# Altium integrated library Linear Technology Operational Amplifiers (LT1000).IntLib: 2280 symbols (part 32 of 79)
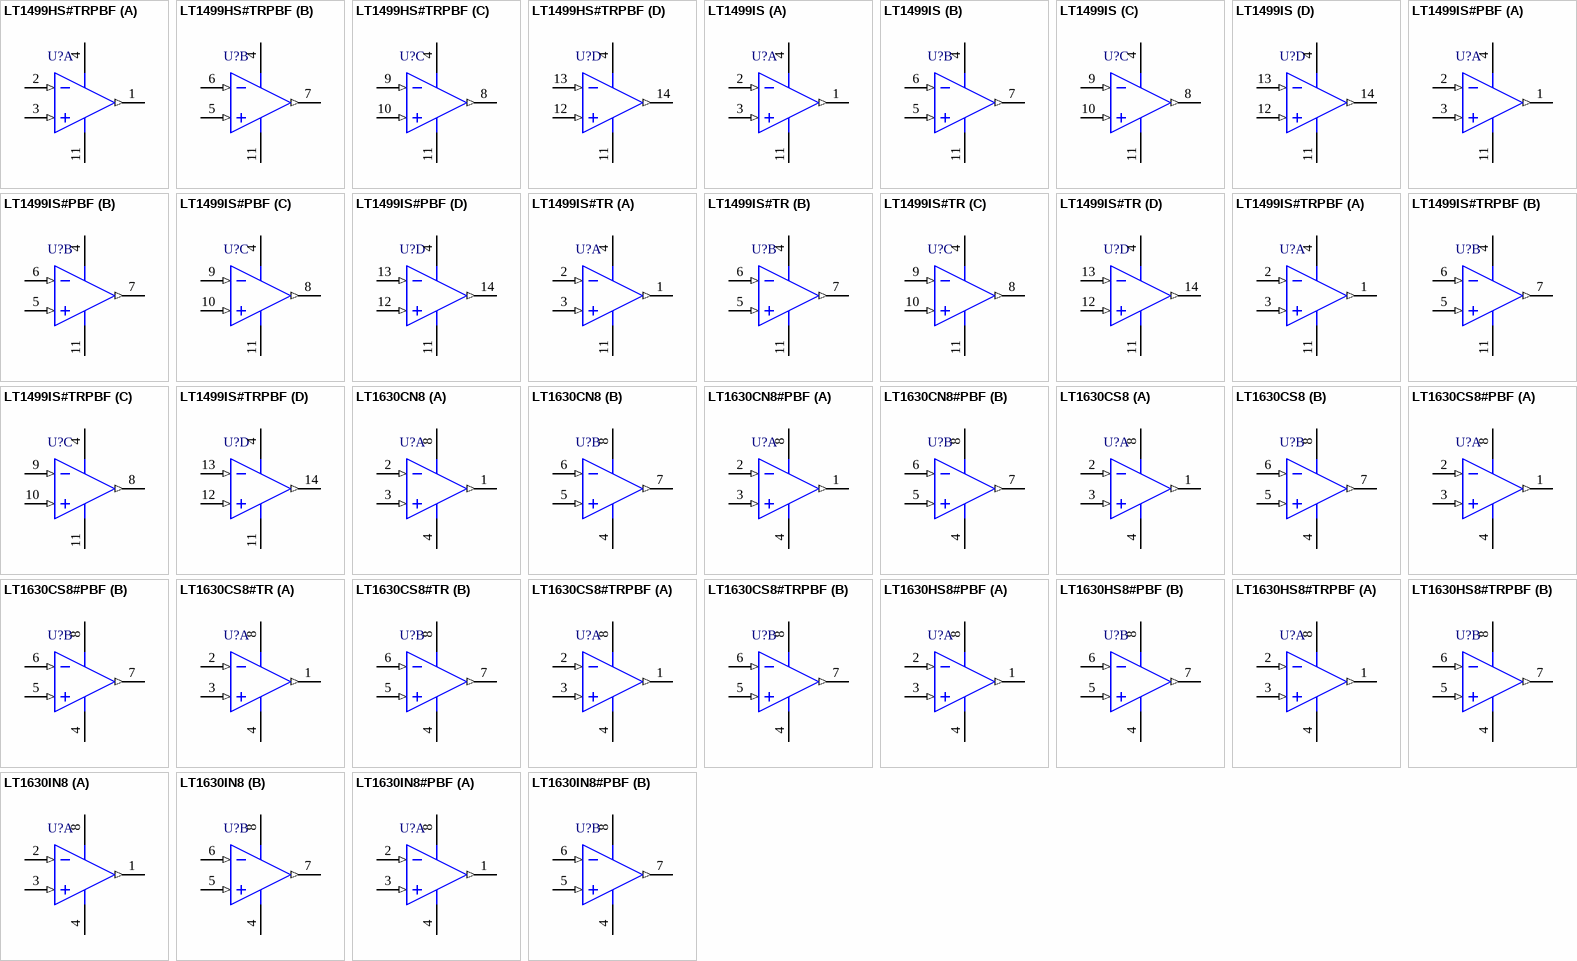
[diagram p136: symbols LT1499HS#TRPBF to LT1630IN8#PBF]

## LT1630CS8#PBF
designator U?
Dual Channel, Low Distortion, High Speed Precision Operational Amplifier, RRIO, 30 MHz Typical GBW, 9.2 V/us Typical SR, 2.6 to 36 V, 8-Pin SOIC (S8-8), Commercial, Pb-Free; Linear Technology Part Number: LT1630; Manufacturer: Linear Technology; PartNumber: LT1630CS8#PBF; Channels (#): 2; GBW (MHz) Typical: 30; Is (mA) Typical: 3.5; SR (V/us) Typical: 9.2; Vos (mV) Guaranteed: 0.525; Vos (mV) Typical: 0.15; Vs Max (V): 36; Vs Min (V): 2.6; DatasheetVersion: Rev. A; PackageVersion: Rev G; PackageReference: LT-S8-8; PackageDescription: 8-Pin Plastic Small Outline, Body 4.9 x 3.9 mm, Pitch 1.27 mm; Supplier 1: Digi-Key; Supplier Part Number 1: LT1630CS8#PBF-ND; Supplier 2: Farnell; Supplier Part Number 2: 1663453; Supplier 3: Newark; Supplier Part Number 3: 57M5280; RoHS: Pb-Free; Type: VFB; Mounting Technology: Surface Mount; ComponentLink1Description: Manufacturer URL; ComponentLink1URL: http://www.linear.com/; ComponentLink2Description: Datasheet; ComponentLink2URL: http://cds.linear.com/docs/en/datasheet/16301fa.pdf; ComponentLink3Description: Package Specification; ComponentLink3URL: http://cds.linear.com/docs/en/packaging/05081610_G_SO8.pdf
footprint LT-S8-8_N (SOIC, 8-Leads, Body 4.9x3.9mm, Pitch 1.27mm, IPC Medium Density)
footprint LT-S8-8_L (SOIC, 8-Leads, Body 4.9x3.9mm, Pitch 1.27mm, IPC High Density)
footprint LT-S8-8_M (SOIC, 8-Leads, Body 4.9x3.9mm, Pitch 1.27mm, IPC Low Density)
pins on every part: 4 V- (power), 8 V+ (power)
part A pins: 1 OUT A (out), 2 -IN A (in), 3 +IN A (in)
part B pins: 5 +IN B (in), 6 -IN B (in), 7 OUT B (out)

## LT1630CS8#TR
designator U?
Dual Channel, Low Distortion, High Speed Precision Operational Amplifier, RRIO, 30 MHz Typical GBW, 9.2 V/us Typical SR, 2.6 to 36 V, 8-Pin SOIC (S8-8), Commercial, Reel; Linear Technology Part Number: LT1630; Manufacturer: Linear Technology; PartNumber: LT1630CS8#TR; Channels (#): 2; GBW (MHz) Typical: 30; Is (mA) Typical: 3.5; SR (V/us) Typical: 9.2; Vos (mV) Guaranteed: 0.525; Vos (mV) Typical: 0.15; Vs Max (V): 36; Vs Min (V): 2.6; DatasheetVersion: Rev. A; PackageVersion: Rev G; PackageReference: LT-S8-8; PackageDescription: 8-Pin Plastic Small Outline, Body 4.9 x 3.9 mm, Pitch 1.27 mm; Supplier 1: Digi-Key; Supplier Part Number 1: LT1630CS8#TR-ND; Packing: Reel; Type: VFB; Mounting Technology: Surface Mount; ComponentLink1Description: Manufacturer URL; ComponentLink1URL: http://www.linear.com/; ComponentLink2Description: Datasheet; ComponentLink2URL: http://cds.linear.com/docs/en/datasheet/16301fa.pdf; ComponentLink3Description: Package Specification; ComponentLink3URL: http://cds.linear.com/docs/en/packaging/05081610_G_SO8.pdf
footprint LT-S8-8_N (SOIC, 8-Leads, Body 4.9x3.9mm, Pitch 1.27mm, IPC Medium Density)
footprint LT-S8-8_L (SOIC, 8-Leads, Body 4.9x3.9mm, Pitch 1.27mm, IPC High Density)
footprint LT-S8-8_M (SOIC, 8-Leads, Body 4.9x3.9mm, Pitch 1.27mm, IPC Low Density)
pins on every part: 4 V- (power), 8 V+ (power)
part A pins: 1 OUT A (out), 2 -IN A (in), 3 +IN A (in)
part B pins: 5 +IN B (in), 6 -IN B (in), 7 OUT B (out)

## LT1630CS8#TRPBF
designator U?
Dual Channel, Low Distortion, High Speed Precision Operational Amplifier, RRIO, 30 MHz Typical GBW, 9.2 V/us Typical SR, 2.6 to 36 V, 8-Pin SOIC (S8-8), Commercial, Pb-Free, Reel; Linear Technology Part Number: LT1630; Manufacturer: Linear Technology; PartNumber: LT1630CS8#TRPBF; Channels (#): 2; GBW (MHz) Typical: 30; Is (mA) Typical: 3.5; SR (V/us) Typical: 9.2; Vos (mV) Guaranteed: 0.525; Vos (mV) Typical: 0.15; Vs Max (V): 36; Vs Min (V): 2.6; DatasheetVersion: Rev. A; PackageVersion: Rev G; PackageReference: LT-S8-8; PackageDescription: 8-Pin Plastic Small Outline, Body 4.9 x 3.9 mm, Pitch 1.27 mm; Supplier 1: Digi-Key; Supplier Part Number 1: LT1630CS8#TRPBF-ND; Supplier 2: Newark; Supplier Part Number 2: 57M5282; Packing: Reel; RoHS: Pb-Free; Type: VFB; Mounting Technology: Surface Mount; ComponentLink1Description: Manufacturer URL; ComponentLink1URL: http://www.linear.com/; ComponentLink2Description: Datasheet; ComponentLink2URL: http://cds.linear.com/docs/en/datasheet/16301fa.pdf; ComponentLink3Description: Package Specification; ComponentLink3URL: http://cds.linear.com/docs/en/packaging/05081610_G_SO8.pdf
footprint LT-S8-8_N (SOIC, 8-Leads, Body 4.9x3.9mm, Pitch 1.27mm, IPC Medium Density)
footprint LT-S8-8_L (SOIC, 8-Leads, Body 4.9x3.9mm, Pitch 1.27mm, IPC High Density)
footprint LT-S8-8_M (SOIC, 8-Leads, Body 4.9x3.9mm, Pitch 1.27mm, IPC Low Density)
pins on every part: 4 V- (power), 8 V+ (power)
part A pins: 1 OUT A (out), 2 -IN A (in), 3 +IN A (in)
part B pins: 5 +IN B (in), 6 -IN B (in), 7 OUT B (out)

## LT1630HS8#PBF
designator U?
Dual Channel, Low Distortion, High Speed Precision Operational Amplifier, RRIO, 30 MHz Typical GBW, 9.2 V/us Typical SR, 2.6 to 36 V, 8-Pin SOIC (S8-8), High Temperature / Automotive, Pb-Free; Linear Technology Part Number: LT1630; Manufacturer: Linear Technology; PartNumber: LT1630HS8#PBF; Channels (#): 2; GBW (MHz) Typical: 30; Is (mA) Typical: 3.5; SR (V/us) Typical: 9.2; Vos (mV) Guaranteed: 0.525; Vos (mV) Typical: 0.15; Vs Max (V): 36; Vs Min (V): 2.6; DatasheetVersion: Rev. A; PackageVersion: Rev G; PackageReference: LT-S8-8; PackageDescription: 8-Pin Plastic Small Outline, Body 4.9 x 3.9 mm, Pitch 1.27 mm; Supplier 1: Digi-Key; Supplier Part Number 1: LT1630HS8#PBF-ND; Supplier 2: Newark; Supplier Part Number 2: 64R6812; RoHS: Pb-Free; Type: VFB; Mounting Technology: Surface Mount; ComponentLink1Description: Manufacturer URL; ComponentLink1URL: http://www.linear.com/; ComponentLink2Description: Datasheet; ComponentLink2URL: http://cds.linear.com/docs/en/datasheet/16301fa.pdf; ComponentLink3Description: Package Specification; ComponentLink3URL: http://cds.linear.com/docs/en/packaging/05081610_G_SO8.pdf
footprint LT-S8-8_N (SOIC, 8-Leads, Body 4.9x3.9mm, Pitch 1.27mm, IPC Medium Density)
footprint LT-S8-8_L (SOIC, 8-Leads, Body 4.9x3.9mm, Pitch 1.27mm, IPC High Density)
footprint LT-S8-8_M (SOIC, 8-Leads, Body 4.9x3.9mm, Pitch 1.27mm, IPC Low Density)
pins on every part: 4 V- (power), 8 V+ (power)
part A pins: 1 OUT A (out), 2 -IN A (in), 3 +IN A (in)
part B pins: 5 +IN B (in), 6 -IN B (in), 7 OUT B (out)

## LT1630HS8#TRPBF
designator U?
Dual Channel, Low Distortion, High Speed Precision Operational Amplifier, RRIO, 30 MHz Typical GBW, 9.2 V/us Typical SR, 2.6 to 36 V, 8-Pin SOIC (S8-8), High Temperature / Automotive, Pb-Free, Reel; Linear Technology Part Number: LT1630; Manufacturer: Linear Technology; PartNumber: LT1630HS8#TRPBF; Channels (#): 2; GBW (MHz) Typical: 30; Is (mA) Typical: 3.5; SR (V/us) Typical: 9.2; Vos (mV) Guaranteed: 0.525; Vos (mV) Typical: 0.15; Vs Max (V): 36; Vs Min (V): 2.6; DatasheetVersion: Rev. A; PackageVersion: Rev G; PackageReference: LT-S8-8; PackageDescription: 8-Pin Plastic Small Outline, Body 4.9 x 3.9 mm, Pitch 1.27 mm; Supplier 1: Digi-Key; Supplier Part Number 1: LT1630HS8#TRPBF-ND; Packing: Reel; RoHS: Pb-Free; Type: VFB; Mounting Technology: Surface Mount; ComponentLink1Description: Manufacturer URL; ComponentLink1URL: http://www.linear.com/; ComponentLink2Description: Datasheet; ComponentLink2URL: http://cds.linear.com/docs/en/datasheet/16301fa.pdf; ComponentLink3Description: Package Specification; ComponentLink3URL: http://cds.linear.com/docs/en/packaging/05081610_G_SO8.pdf
footprint LT-S8-8_N (SOIC, 8-Leads, Body 4.9x3.9mm, Pitch 1.27mm, IPC Medium Density)
footprint LT-S8-8_L (SOIC, 8-Leads, Body 4.9x3.9mm, Pitch 1.27mm, IPC High Density)
footprint LT-S8-8_M (SOIC, 8-Leads, Body 4.9x3.9mm, Pitch 1.27mm, IPC Low Density)
pins on every part: 4 V- (power), 8 V+ (power)
part A pins: 1 OUT A (out), 2 -IN A (in), 3 +IN A (in)
part B pins: 5 +IN B (in), 6 -IN B (in), 7 OUT B (out)

## LT1630IN8
designator U?
Dual Channel, Low Distortion, High Speed Precision Operational Amplifier, RRIO, 30 MHz Typical GBW, 9.2 V/us Typical SR, 2.6 to 36 V, 8-Pin DIP (N8-8), Industrial; Linear Technology Part Number: LT1630; Manufacturer: Linear Technology; PartNumber: LT1630IN8; Channels (#): 2; GBW (MHz) Typical: 30; Is (mA) Typical: 3.5; SR (V/us) Typical: 9.2; Vos (mV) Guaranteed: 0.525; Vos (mV) Typical: 0.15; Vs Max (V): 36; Vs Min (V): 2.6; DatasheetVersion: Rev. A; PackageVersion: Rev I; PackageReference: LT-N8-8; PackageDescription: 8-Lead PDIP, Body 10.16 x 6.48 mm, Pitch 2.54 mm; Supplier 1: Digi-Key; Supplier Part Number 1: LT1630IN8-ND; Type: VFB; Mounting Technology: Surface Mount; ComponentLink1Description: Manufacturer URL; ComponentLink1URL: http://www.linear.com/; ComponentLink2Description: Datasheet; ComponentLink2URL: http://cds.linear.com/docs/en/datasheet/16301fa.pdf; ComponentLink3Description: Package Specification; ComponentLink3URL: http://cds.linear.com/docs/en/packaging/05081510_I_N8.pdf
footprint LT-N8-8 (DIP, 8-Leads, Body 10.16x6.48mm, Pitch 2.54mm)
pins on every part: 4 V- (power), 8 V+ (power)
part A pins: 1 OUT A (out), 2 -IN A (in), 3 +IN A (in)
part B pins: 5 +IN B (in), 6 -IN B (in), 7 OUT B (out)

## LT1630IN8#PBF
designator U?
Dual Channel, Low Distortion, High Speed Precision Operational Amplifier, RRIO, 30 MHz Typical GBW, 9.2 V/us Typical SR, 2.6 to 36 V, 8-Pin DIP (N8-8), Industrial, Pb-Free; Linear Technology Part Number: LT1630; Manufacturer: Linear Technology; PartNumber: LT1630IN8#PBF; Channels (#): 2; GBW (MHz) Typical: 30; Is (mA) Typical: 3.5; SR (V/us) Typical: 9.2; Vos (mV) Guaranteed: 0.525; Vos (mV) Typical: 0.15; Vs Max (V): 36; Vs Min (V): 2.6; DatasheetVersion: Rev. A; PackageVersion: Rev I; PackageReference: LT-N8-8; PackageDescription: 8-Lead PDIP, Body 10.16 x 6.48 mm, Pitch 2.54 mm; Supplier 1: Digi-Key; Supplier Part Number 1: LT1630IN8#PBF-ND; RoHS: Pb-Free; Type: VFB; Mounting Technology: Through Hole; ComponentLink1Description: Manufacturer URL; ComponentLink1URL: http://www.linear.com/; ComponentLink2Description: Datasheet; ComponentLink2URL: http://cds.linear.com/docs/en/datasheet/16301fa.pdf; ComponentLink3Description: Package Specification; ComponentLink3URL: http://cds.linear.com/docs/en/packaging/05081510_I_N8.pdf
footprint LT-N8-8 (DIP, 8-Leads, Body 10.16x6.48mm, Pitch 2.54mm)
pins on every part: 4 V- (power), 8 V+ (power)
part A pins: 1 OUT A (out), 2 -IN A (in), 3 +IN A (in)
part B pins: 5 +IN B (in), 6 -IN B (in), 7 OUT B (out)

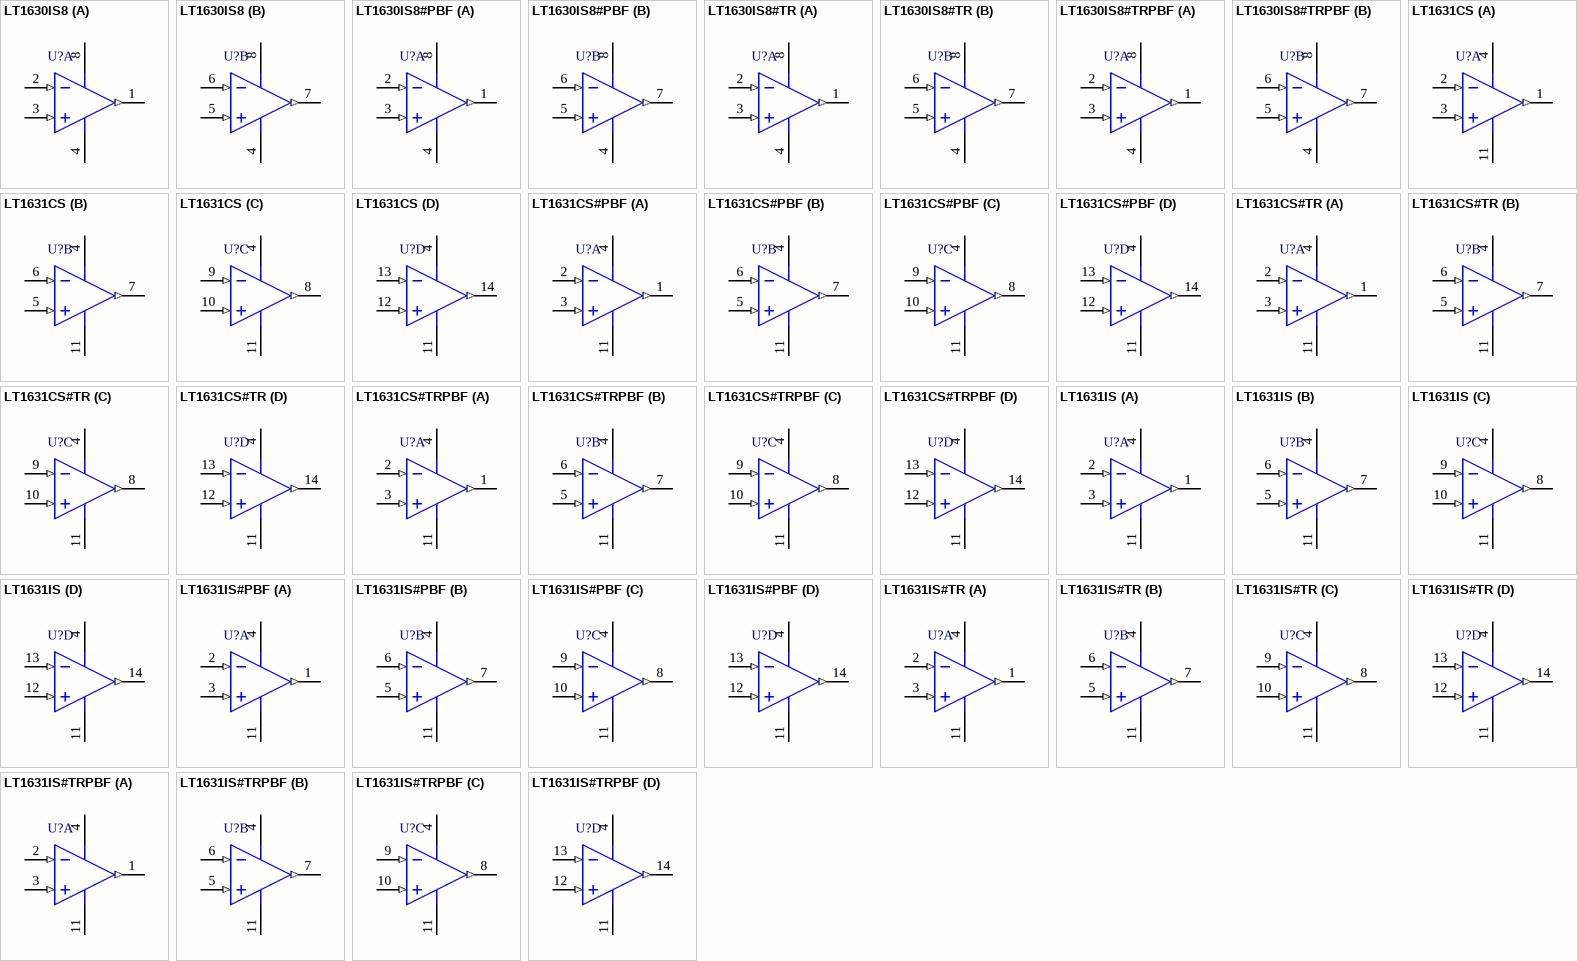
[diagram p55: symbols LT1630IS8 to LT1631IS#TRPBF]

## LT1630IS8
designator U?
Dual Channel, Low Distortion, High Speed Precision Operational Amplifier, RRIO, 30 MHz Typical GBW, 9.2 V/us Typical SR, 2.6 to 36 V, 8-Pin SOIC (S8-8), Industrial; Linear Technology Part Number: LT1630; Manufacturer: Linear Technology; PartNumber: LT1630IS8; Channels (#): 2; GBW (MHz) Typical: 30; Is (mA) Typical: 3.5; SR (V/us) Typical: 9.2; Vos (mV) Guaranteed: 0.525; Vos (mV) Typical: 0.15; Vs Max (V): 36; Vs Min (V): 2.6; DatasheetVersion: Rev. A; PackageVersion: Rev G; PackageReference: LT-S8-8; PackageDescription: 8-Pin Plastic Small Outline, Body 4.9 x 3.9 mm, Pitch 1.27 mm; Supplier 1: Digi-Key; Supplier Part Number 1: LT1630IS8-ND; Type: VFB; Mounting Technology: Surface Mount; ComponentLink1Description: Manufacturer URL; ComponentLink1URL: http://www.linear.com/; ComponentLink2Description: Datasheet; ComponentLink2URL: http://cds.linear.com/docs/en/datasheet/16301fa.pdf; ComponentLink3Description: Package Specification; ComponentLink3URL: http://cds.linear.com/docs/en/packaging/05081610_G_SO8.pdf
footprint LT-S8-8_N (SOIC, 8-Leads, Body 4.9x3.9mm, Pitch 1.27mm, IPC Medium Density)
footprint LT-S8-8_L (SOIC, 8-Leads, Body 4.9x3.9mm, Pitch 1.27mm, IPC High Density)
footprint LT-S8-8_M (SOIC, 8-Leads, Body 4.9x3.9mm, Pitch 1.27mm, IPC Low Density)
pins on every part: 4 V- (power), 8 V+ (power)
part A pins: 1 OUT A (out), 2 -IN A (in), 3 +IN A (in)
part B pins: 5 +IN B (in), 6 -IN B (in), 7 OUT B (out)

## LT1630IS8#PBF
designator U?
Dual Channel, Low Distortion, High Speed Precision Operational Amplifier, RRIO, 30 MHz Typical GBW, 9.2 V/us Typical SR, 2.6 to 36 V, 8-Pin SOIC (S8-8), Industrial, Pb-Free; Linear Technology Part Number: LT1630; Manufacturer: Linear Technology; PartNumber: LT1630IS8#PBF; Channels (#): 2; GBW (MHz) Typical: 30; Is (mA) Typical: 3.5; SR (V/us) Typical: 9.2; Vos (mV) Guaranteed: 0.525; Vos (mV) Typical: 0.15; Vs Max (V): 36; Vs Min (V): 2.6; DatasheetVersion: Rev. A; PackageVersion: Rev G; PackageReference: LT-S8-8; PackageDescription: 8-Pin Plastic Small Outline, Body 4.9 x 3.9 mm, Pitch 1.27 mm; Supplier 1: Digi-Key; Supplier Part Number 1: LT1630IS8#PBF-ND; RoHS: Pb-Free; Type: VFB; Mounting Technology: Surface Mount; ComponentLink1Description: Manufacturer URL; ComponentLink1URL: http://www.linear.com/; ComponentLink2Description: Datasheet; ComponentLink2URL: http://cds.linear.com/docs/en/datasheet/16301fa.pdf; ComponentLink3Description: Package Specification; ComponentLink3URL: http://cds.linear.com/docs/en/packaging/05081610_G_SO8.pdf
footprint LT-S8-8_N (SOIC, 8-Leads, Body 4.9x3.9mm, Pitch 1.27mm, IPC Medium Density)
footprint LT-S8-8_L (SOIC, 8-Leads, Body 4.9x3.9mm, Pitch 1.27mm, IPC High Density)
footprint LT-S8-8_M (SOIC, 8-Leads, Body 4.9x3.9mm, Pitch 1.27mm, IPC Low Density)
pins on every part: 4 V- (power), 8 V+ (power)
part A pins: 1 OUT A (out), 2 -IN A (in), 3 +IN A (in)
part B pins: 5 +IN B (in), 6 -IN B (in), 7 OUT B (out)

## LT1630IS8#TR
designator U?
Dual Channel, Low Distortion, High Speed Precision Operational Amplifier, RRIO, 30 MHz Typical GBW, 9.2 V/us Typical SR, 2.6 to 36 V, 8-Pin SOIC (S8-8), Industrial, Reel; Linear Technology Part Number: LT1630; Manufacturer: Linear Technology; PartNumber: LT1630IS8#TR; Channels (#): 2; GBW (MHz) Typical: 30; Is (mA) Typical: 3.5; SR (V/us) Typical: 9.2; Vos (mV) Guaranteed: 0.525; Vos (mV) Typical: 0.15; Vs Max (V): 36; Vs Min (V): 2.6; DatasheetVersion: Rev. A; PackageVersion: Rev G; PackageReference: LT-S8-8; PackageDescription: 8-Pin Plastic Small Outline, Body 4.9 x 3.9 mm, Pitch 1.27 mm; Supplier 1: Digi-Key; Supplier Part Number 1: LT1630IS8#TR-ND; Packing: Reel; Type: VFB; Mounting Technology: Surface Mount; ComponentLink1Description: Manufacturer URL; ComponentLink1URL: http://www.linear.com/; ComponentLink2Description: Datasheet; ComponentLink2URL: http://cds.linear.com/docs/en/datasheet/16301fa.pdf; ComponentLink3Description: Package Specification; ComponentLink3URL: http://cds.linear.com/docs/en/packaging/05081610_G_SO8.pdf
footprint LT-S8-8_N (SOIC, 8-Leads, Body 4.9x3.9mm, Pitch 1.27mm, IPC Medium Density)
footprint LT-S8-8_L (SOIC, 8-Leads, Body 4.9x3.9mm, Pitch 1.27mm, IPC High Density)
footprint LT-S8-8_M (SOIC, 8-Leads, Body 4.9x3.9mm, Pitch 1.27mm, IPC Low Density)
pins on every part: 4 V- (power), 8 V+ (power)
part A pins: 1 OUT A (out), 2 -IN A (in), 3 +IN A (in)
part B pins: 5 +IN B (in), 6 -IN B (in), 7 OUT B (out)

## LT1630IS8#TRPBF
designator U?
Dual Channel, Low Distortion, High Speed Precision Operational Amplifier, RRIO, 30 MHz Typical GBW, 9.2 V/us Typical SR, 2.6 to 36 V, 8-Pin SOIC (S8-8), Industrial, Pb-Free, Reel; Linear Technology Part Number: LT1630; Manufacturer: Linear Technology; PartNumber: LT1630IS8#TRPBF; Channels (#): 2; GBW (MHz) Typical: 30; Is (mA) Typical: 3.5; SR (V/us) Typical: 9.2; Vos (mV) Guaranteed: 0.525; Vos (mV) Typical: 0.15; Vs Max (V): 36; Vs Min (V): 2.6; DatasheetVersion: Rev. A; PackageVersion: Rev G; PackageReference: LT-S8-8; PackageDescription: 8-Pin Plastic Small Outline, Body 4.9 x 3.9 mm, Pitch 1.27 mm; Supplier 1: Digi-Key; Supplier Part Number 1: LT1630IS8#TRPBF-ND; Packing: Reel; RoHS: Pb-Free; Type: VFB; Mounting Technology: Surface Mount; ComponentLink1Description: Manufacturer URL; ComponentLink1URL: http://www.linear.com/; ComponentLink2Description: Datasheet; ComponentLink2URL: http://cds.linear.com/docs/en/datasheet/16301fa.pdf; ComponentLink3Description: Package Specification; ComponentLink3URL: http://cds.linear.com/docs/en/packaging/05081610_G_SO8.pdf
footprint LT-S8-8_N (SOIC, 8-Leads, Body 4.9x3.9mm, Pitch 1.27mm, IPC Medium Density)
footprint LT-S8-8_L (SOIC, 8-Leads, Body 4.9x3.9mm, Pitch 1.27mm, IPC High Density)
footprint LT-S8-8_M (SOIC, 8-Leads, Body 4.9x3.9mm, Pitch 1.27mm, IPC Low Density)
pins on every part: 4 V- (power), 8 V+ (power)
part A pins: 1 OUT A (out), 2 -IN A (in), 3 +IN A (in)
part B pins: 5 +IN B (in), 6 -IN B (in), 7 OUT B (out)

## LT1631CS
designator U?
Quad Channel, Low Distortion, High Speed Precision Operational Amplifier, RRIO, 30 MHz Typical GBW, 9.2 V/us Typical SR, 2.6 to 36 V, 14-Pin SOIC (S-14), Commercial; Linear Technology Part Number: LT1631; Manufacturer: Linear Technology; PartNumber: LT1631CS; Channels (#): 4; GBW (MHz) Typical: 30; Is (mA) Typical: 3.5; SR (V/us) Typical: 9.2; Vos (mV) Guaranteed: 0.525; Vos (mV) Typical: 0.15; Vs Max (V): 36; Vs Min (V): 2.6; DatasheetVersion: Rev. A; PackageVersion: Rev G; PackageReference: LT-S-14; PackageDescription: 14-Lead Plastic Small Outline, Body 8.65 x 3.90 mm, Pitch 1.27 mm; Supplier 1: Digi-Key; Supplier Part Number 1: LT1631CS-ND; Type: VFB; Mounting Technology: Surface Mount; ComponentLink1Description: Manufacturer URL; ComponentLink1URL: http://www.linear.com/; ComponentLink2Description: Datasheet; ComponentLink2URL: http://cds.linear.com/docs/en/datasheet/16301fa.pdf; ComponentLink3Description: Package Specification; ComponentLink3URL: http://cds.linear.com/docs/en/packaging/05081610_G_S14.pdf
footprint LT-S-14_N (SOIC, 14-Leads, Body 8.65x3.90mm, Pitch 1.27mm, IPC Medium Density)
footprint LT-S-14_L (SOIC, 14-Leads, Body 8.65x3.90mm, Pitch 1.27mm, IPC High Density)
footprint LT-S-14_M (SOIC, 14-Leads, Body 8.65x3.90mm, Pitch 1.27mm, IPC Low Density)
pins on every part: 4 V+ (power), 11 V- (power)
part A pins: 1 OUT A (out), 2 -IN A (in), 3 +IN A (in)
part B pins: 5 +IN B (in), 6 -IN B (in), 7 OUT B (out)
part C pins: 8 OUT C (out), 9 -IN C (in), 10 +IN C (in)
part D pins: 12 +IN D (in), 13 -IN D (in), 14 OUT D (out)

## LT1631CS#PBF
designator U?
Quad Channel, Low Distortion, High Speed Precision Operational Amplifier, RRIO, 30 MHz Typical GBW, 9.2 V/us Typical SR, 2.6 to 36 V, 14-Pin SOIC (S-14), Commercial, Pb-Free; Linear Technology Part Number: LT1631; Manufacturer: Linear Technology; PartNumber: LT1631CS#PBF; Channels (#): 4; GBW (MHz) Typical: 30; Is (mA) Typical: 3.5; SR (V/us) Typical: 9.2; Vos (mV) Guaranteed: 0.525; Vos (mV) Typical: 0.15; Vs Max (V): 36; Vs Min (V): 2.6; DatasheetVersion: Rev. A; PackageVersion: Rev G; PackageReference: LT-S-14; PackageDescription: 14-Lead Plastic Small Outline, Body 8.65 x 3.90 mm, Pitch 1.27 mm; Supplier 1: Digi-Key; Supplier Part Number 1: LT1631CS#PBF-ND; Supplier 2: Farnell; Supplier Part Number 2: 2252729; Supplier 3: Newark; Supplier Part Number 3: 57M5290; RoHS: Pb-Free; Type: VFB; Mounting Technology: Surface Mount; ComponentLink1Description: Manufacturer URL; ComponentLink1URL: http://www.linear.com/; ComponentLink2Description: Datasheet; ComponentLink2URL: http://cds.linear.com/docs/en/datasheet/16301fa.pdf; ComponentLink3Description: Package Specification; ComponentLink3URL: http://cds.linear.com/docs/en/packaging/05081610_G_S14.pdf
footprint LT-S-14_N (SOIC, 14-Leads, Body 8.65x3.90mm, Pitch 1.27mm, IPC Medium Density)
footprint LT-S-14_L (SOIC, 14-Leads, Body 8.65x3.90mm, Pitch 1.27mm, IPC High Density)
footprint LT-S-14_M (SOIC, 14-Leads, Body 8.65x3.90mm, Pitch 1.27mm, IPC Low Density)
pins on every part: 4 V+ (power), 11 V- (power)
part A pins: 1 OUT A (out), 2 -IN A (in), 3 +IN A (in)
part B pins: 5 +IN B (in), 6 -IN B (in), 7 OUT B (out)
part C pins: 8 OUT C (out), 9 -IN C (in), 10 +IN C (in)
part D pins: 12 +IN D (in), 13 -IN D (in), 14 OUT D (out)

## LT1631CS#TR
designator U?
Quad Channel, Low Distortion, High Speed Precision Operational Amplifier, RRIO, 30 MHz Typical GBW, 9.2 V/us Typical SR, 2.6 to 36 V, 14-Pin SOIC (S-14), Commercial, Reel; Linear Technology Part Number: LT1631; Manufacturer: Linear Technology; PartNumber: LT1631CS#TR; Channels (#): 4; GBW (MHz) Typical: 30; Is (mA) Typical: 3.5; SR (V/us) Typical: 9.2; Vos (mV) Guaranteed: 0.525; Vos (mV) Typical: 0.15; Vs Max (V): 36; Vs Min (V): 2.6; DatasheetVersion: Rev. A; PackageVersion: Rev G; PackageReference: LT-S-14; PackageDescription: 14-Lead Plastic Small Outline, Body 8.65 x 3.90 mm, Pitch 1.27 mm; Supplier 1: Digi-Key; Supplier Part Number 1: LT1631CS#TR-ND; Packing: Reel; Type: VFB; Mounting Technology: Surface Mount; ComponentLink1Description: Manufacturer URL; ComponentLink1URL: http://www.linear.com/; ComponentLink2Description: Datasheet; ComponentLink2URL: http://cds.linear.com/docs/en/datasheet/16301fa.pdf; ComponentLink3Description: Package Specification; ComponentLink3URL: http://cds.linear.com/docs/en/packaging/05081610_G_S14.pdf
footprint LT-S-14_N (SOIC, 14-Leads, Body 8.65x3.90mm, Pitch 1.27mm, IPC Medium Density)
footprint LT-S-14_L (SOIC, 14-Leads, Body 8.65x3.90mm, Pitch 1.27mm, IPC High Density)
footprint LT-S-14_M (SOIC, 14-Leads, Body 8.65x3.90mm, Pitch 1.27mm, IPC Low Density)
pins on every part: 4 V+ (power), 11 V- (power)
part A pins: 1 OUT A (out), 2 -IN A (in), 3 +IN A (in)
part B pins: 5 +IN B (in), 6 -IN B (in), 7 OUT B (out)
part C pins: 8 OUT C (out), 9 -IN C (in), 10 +IN C (in)
part D pins: 12 +IN D (in), 13 -IN D (in), 14 OUT D (out)

## LT1631CS#TRPBF
designator U?
Quad Channel, Low Distortion, High Speed Precision Operational Amplifier, RRIO, 30 MHz Typical GBW, 9.2 V/us Typical SR, 2.6 to 36 V, 14-Pin SOIC (S-14), Commercial, Pb-Free, Reel; Linear Technology Part Number: LT1631; Manufacturer: Linear Technology; PartNumber: LT1631CS#TRPBF; Channels (#): 4; GBW (MHz) Typical: 30; Is (mA) Typical: 3.5; SR (V/us) Typical: 9.2; Vos (mV) Guaranteed: 0.525; Vos (mV) Typical: 0.15; Vs Max (V): 36; Vs Min (V): 2.6; DatasheetVersion: Rev. A; PackageVersion: Rev G; PackageReference: LT-S-14; PackageDescription: 14-Lead Plastic Small Outline, Body 8.65 x 3.90 mm, Pitch 1.27 mm; Supplier 1: Digi-Key; Supplier Part Number 1: LT1631CS#TRPBF-ND; Packing: Reel; RoHS: Pb-Free; Type: VFB; Mounting Technology: Surface Mount; ComponentLink1Description: Manufacturer URL; ComponentLink1URL: http://www.linear.com/; ComponentLink2Description: Datasheet; ComponentLink2URL: http://cds.linear.com/docs/en/datasheet/16301fa.pdf; ComponentLink3Description: Package Specification; ComponentLink3URL: http://cds.linear.com/docs/en/packaging/05081610_G_S14.pdf
footprint LT-S-14_N (SOIC, 14-Leads, Body 8.65x3.90mm, Pitch 1.27mm, IPC Medium Density)
footprint LT-S-14_L (SOIC, 14-Leads, Body 8.65x3.90mm, Pitch 1.27mm, IPC High Density)
footprint LT-S-14_M (SOIC, 14-Leads, Body 8.65x3.90mm, Pitch 1.27mm, IPC Low Density)
pins on every part: 4 V+ (power), 11 V- (power)
part A pins: 1 OUT A (out), 2 -IN A (in), 3 +IN A (in)
part B pins: 5 +IN B (in), 6 -IN B (in), 7 OUT B (out)
part C pins: 8 OUT C (out), 9 -IN C (in), 10 +IN C (in)
part D pins: 12 +IN D (in), 13 -IN D (in), 14 OUT D (out)

## LT1631IS
designator U?
Quad Channel, Low Distortion, High Speed Precision Operational Amplifier, RRIO, 30 MHz Typical GBW, 9.2 V/us Typical SR, 2.6 to 36 V, 14-Pin SOIC (S-14), Industrial; Linear Technology Part Number: LT1631; Manufacturer: Linear Technology; PartNumber: LT1631IS; Channels (#): 4; GBW (MHz) Typical: 30; Is (mA) Typical: 3.5; SR (V/us) Typical: 9.2; Vos (mV) Guaranteed: 0.525; Vos (mV) Typical: 0.15; Vs Max (V): 36; Vs Min (V): 2.6; DatasheetVersion: Rev. A; PackageVersion: Rev G; PackageReference: LT-S-14; PackageDescription: 14-Lead Plastic Small Outline, Body 8.65 x 3.90 mm, Pitch 1.27 mm; Supplier 1: Digi-Key; Supplier Part Number 1: LT1631IS-ND; Type: VFB; Mounting Technology: Surface Mount; ComponentLink1Description: Manufacturer URL; ComponentLink1URL: http://www.linear.com/; ComponentLink2Description: Datasheet; ComponentLink2URL: http://cds.linear.com/docs/en/datasheet/16301fa.pdf; ComponentLink3Description: Package Specification; ComponentLink3URL: http://cds.linear.com/docs/en/packaging/05081610_G_S14.pdf
footprint LT-S-14_N (SOIC, 14-Leads, Body 8.65x3.90mm, Pitch 1.27mm, IPC Medium Density)
footprint LT-S-14_L (SOIC, 14-Leads, Body 8.65x3.90mm, Pitch 1.27mm, IPC High Density)
footprint LT-S-14_M (SOIC, 14-Leads, Body 8.65x3.90mm, Pitch 1.27mm, IPC Low Density)
pins on every part: 4 V+ (power), 11 V- (power)
part A pins: 1 OUT A (out), 2 -IN A (in), 3 +IN A (in)
part B pins: 5 +IN B (in), 6 -IN B (in), 7 OUT B (out)
part C pins: 8 OUT C (out), 9 -IN C (in), 10 +IN C (in)
part D pins: 12 +IN D (in), 13 -IN D (in), 14 OUT D (out)

## LT1631IS#PBF
designator U?
Quad Channel, Low Distortion, High Speed Precision Operational Amplifier, RRIO, 30 MHz Typical GBW, 9.2 V/us Typical SR, 2.6 to 36 V, 14-Pin SOIC (S-14), Industrial, Pb-Free; Linear Technology Part Number: LT1631; Manufacturer: Linear Technology; PartNumber: LT1631IS#PBF; Channels (#): 4; GBW (MHz) Typical: 30; Is (mA) Typical: 3.5; SR (V/us) Typical: 9.2; Vos (mV) Guaranteed: 0.525; Vos (mV) Typical: 0.15; Vs Max (V): 36; Vs Min (V): 2.6; DatasheetVersion: Rev. A; PackageVersion: Rev G; PackageReference: LT-S-14; PackageDescription: 14-Lead Plastic Small Outline, Body 8.65 x 3.90 mm, Pitch 1.27 mm; Supplier 1: Digi-Key; Supplier Part Number 1: LT1631IS#PBF-ND; RoHS: Pb-Free; Type: VFB; Mounting Technology: Surface Mount; ComponentLink1Description: Manufacturer URL; ComponentLink1URL: http://www.linear.com/; ComponentLink2Description: Datasheet; ComponentLink2URL: http://cds.linear.com/docs/en/datasheet/16301fa.pdf; ComponentLink3Description: Package Specification; ComponentLink3URL: http://cds.linear.com/docs/en/packaging/05081610_G_S14.pdf
footprint LT-S-14_N (SOIC, 14-Leads, Body 8.65x3.90mm, Pitch 1.27mm, IPC Medium Density)
footprint LT-S-14_L (SOIC, 14-Leads, Body 8.65x3.90mm, Pitch 1.27mm, IPC High Density)
footprint LT-S-14_M (SOIC, 14-Leads, Body 8.65x3.90mm, Pitch 1.27mm, IPC Low Density)
pins on every part: 4 V+ (power), 11 V- (power)
part A pins: 1 OUT A (out), 2 -IN A (in), 3 +IN A (in)
part B pins: 5 +IN B (in), 6 -IN B (in), 7 OUT B (out)
part C pins: 8 OUT C (out), 9 -IN C (in), 10 +IN C (in)
part D pins: 12 +IN D (in), 13 -IN D (in), 14 OUT D (out)

## LT1631IS#TR
designator U?
Quad Channel, Low Distortion, High Speed Precision Operational Amplifier, RRIO, 30 MHz Typical GBW, 9.2 V/us Typical SR, 2.6 to 36 V, 14-Pin SOIC (S-14), Industrial, Reel; Linear Technology Part Number: LT1631; Manufacturer: Linear Technology; PartNumber: LT1631IS#TR; Channels (#): 4; GBW (MHz) Typical: 30; Is (mA) Typical: 3.5; SR (V/us) Typical: 9.2; Vos (mV) Guaranteed: 0.525; Vos (mV) Typical: 0.15; Vs Max (V): 36; Vs Min (V): 2.6; DatasheetVersion: Rev. A; PackageVersion: Rev G; PackageReference: LT-S-14; PackageDescription: 14-Lead Plastic Small Outline, Body 8.65 x 3.90 mm, Pitch 1.27 mm; Supplier 1: Digi-Key; Supplier Part Number 1: LT1631IS#TR-ND; Packing: Reel; Type: VFB; Mounting Technology: Surface Mount; ComponentLink1Description: Manufacturer URL; ComponentLink1URL: http://www.linear.com/; ComponentLink2Description: Datasheet; ComponentLink2URL: http://cds.linear.com/docs/en/datasheet/16301fa.pdf; ComponentLink3Description: Package Specification; ComponentLink3URL: http://cds.linear.com/docs/en/packaging/05081610_G_S14.pdf
footprint LT-S-14_N (SOIC, 14-Leads, Body 8.65x3.90mm, Pitch 1.27mm, IPC Medium Density)
footprint LT-S-14_L (SOIC, 14-Leads, Body 8.65x3.90mm, Pitch 1.27mm, IPC High Density)
footprint LT-S-14_M (SOIC, 14-Leads, Body 8.65x3.90mm, Pitch 1.27mm, IPC Low Density)
pins on every part: 4 V+ (power), 11 V- (power)
part A pins: 1 OUT A (out), 2 -IN A (in), 3 +IN A (in)
part B pins: 5 +IN B (in), 6 -IN B (in), 7 OUT B (out)
part C pins: 8 OUT C (out), 9 -IN C (in), 10 +IN C (in)
part D pins: 12 +IN D (in), 13 -IN D (in), 14 OUT D (out)

## LT1631IS#TRPBF
designator U?
Quad Channel, Low Distortion, High Speed Precision Operational Amplifier, RRIO, 30 MHz Typical GBW, 9.2 V/us Typical SR, 2.6 to 36 V, 14-Pin SOIC (S-14), Industrial, Pb-Free, Reel; Linear Technology Part Number: LT1631; Manufacturer: Linear Technology; PartNumber: LT1631IS#TRPBF; Channels (#): 4; GBW (MHz) Typical: 30; Is (mA) Typical: 3.5; SR (V/us) Typical: 9.2; Vos (mV) Guaranteed: 0.525; Vos (mV) Typical: 0.15; Vs Max (V): 36; Vs Min (V): 2.6; DatasheetVersion: Rev. A; PackageVersion: Rev G; PackageReference: LT-S-14; PackageDescription: 14-Lead Plastic Small Outline, Body 8.65 x 3.90 mm, Pitch 1.27 mm; Supplier 1: Digi-Key; Supplier Part Number 1: LT1631IS#TRPBF-ND; Packing: Reel; RoHS: Pb-Free; Type: VFB; Mounting Technology: Surface Mount; ComponentLink1Description: Manufacturer URL; ComponentLink1URL: http://www.linear.com/; ComponentLink2Description: Datasheet; ComponentLink2URL: http://cds.linear.com/docs/en/datasheet/16301fa.pdf; ComponentLink3Description: Package Specification; ComponentLink3URL: http://cds.linear.com/docs/en/packaging/05081610_G_S14.pdf
footprint LT-S-14_N (SOIC, 14-Leads, Body 8.65x3.90mm, Pitch 1.27mm, IPC Medium Density)
footprint LT-S-14_L (SOIC, 14-Leads, Body 8.65x3.90mm, Pitch 1.27mm, IPC High Density)
footprint LT-S-14_M (SOIC, 14-Leads, Body 8.65x3.90mm, Pitch 1.27mm, IPC Low Density)
pins on every part: 4 V+ (power), 11 V- (power)
part A pins: 1 OUT A (out), 2 -IN A (in), 3 +IN A (in)
part B pins: 5 +IN B (in), 6 -IN B (in), 7 OUT B (out)
part C pins: 8 OUT C (out), 9 -IN C (in), 10 +IN C (in)
part D pins: 12 +IN D (in), 13 -IN D (in), 14 OUT D (out)

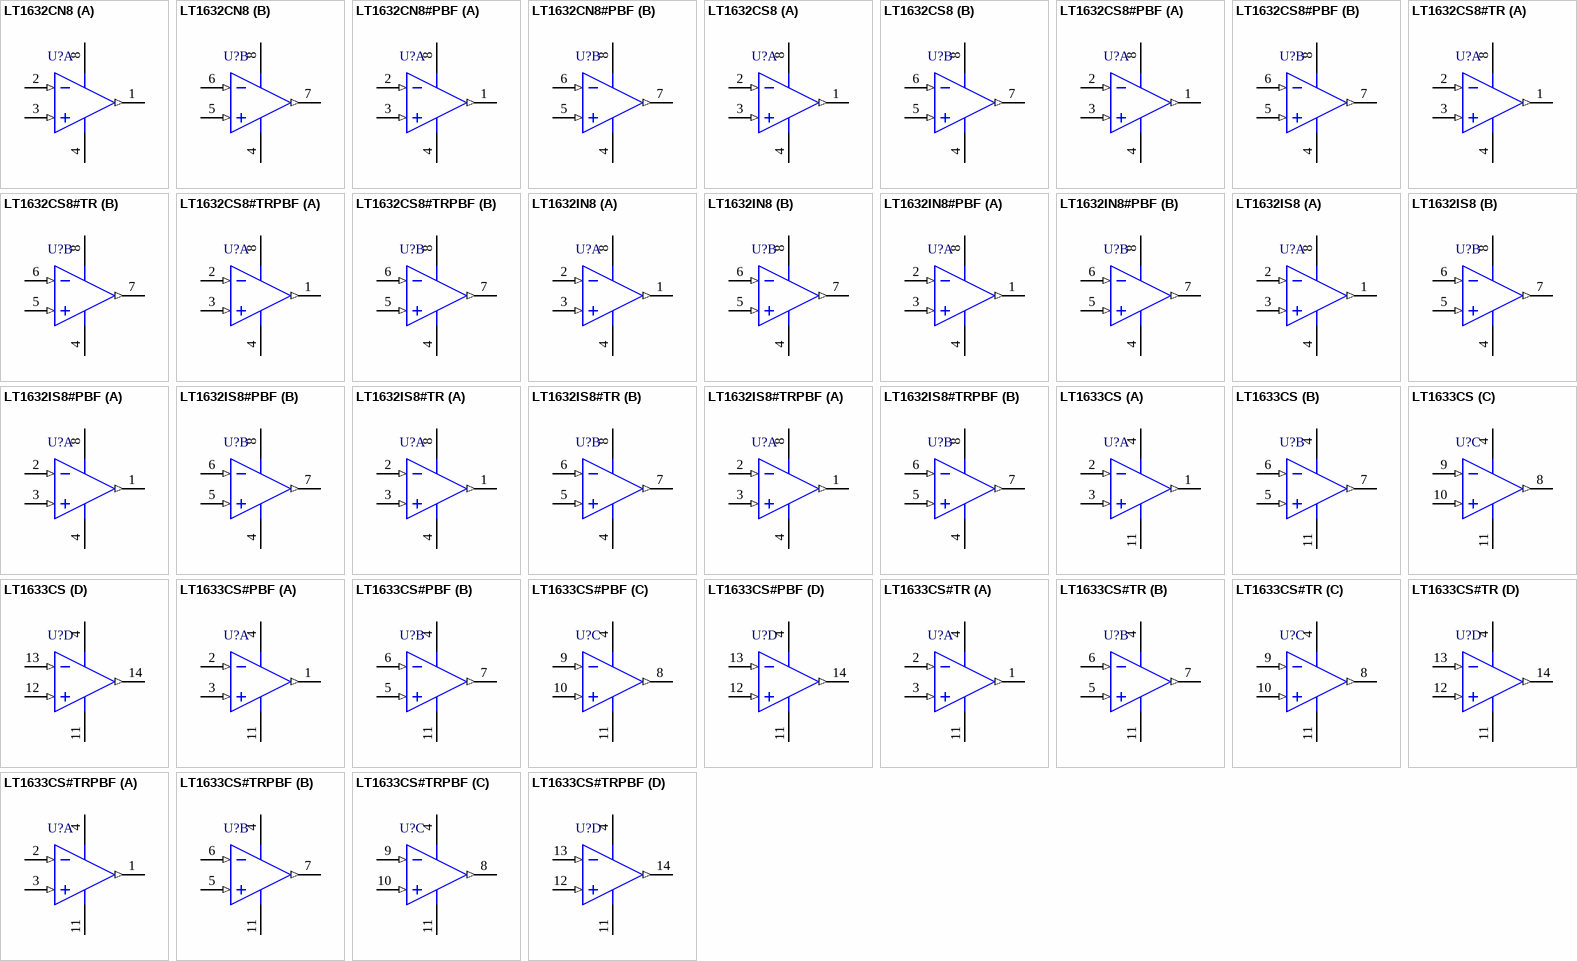
[diagram p56: symbols LT1632CN8 to LT1633CS#TRPBF]

## LT1632CN8
designator U?
Dual Channel, Low distortion, High Speed, Precision Operational Amplifier, RRIO, 45 MHz Typical GBW, 27 V/us Typical SR, 2.6 to 36 V, 8-Pin DIP (N8-8), Commercial; Linear Technology Part Number: LT1632; Manufacturer: Linear Technology; PartNumber: LT1632CN8; Channels (#): 2; GBW (MHz) Typical: 45; Is (mA) Typical: 4.3; SR (V/us) Typical: 27; Vos (mV) Guaranteed: 1.35; Vos (mV) Typical: 0.4; Vs Max (V): 36; Vs Min (V): 2.6; PackageVersion: Rev I; PackageReference: LT-N8-8; PackageDescription: 8-Lead PDIP, Body 10.16 x 6.48 mm, Pitch 2.54 mm; Supplier 1: Digi-Key; Supplier Part Number 1: LT1632CN8-ND; Type: VFB; Mounting Technology: Through Hole; ComponentLink1Description: Manufacturer URL; ComponentLink1URL: http://www.linear.com/; ComponentLink2Description: Datasheet; ComponentLink2URL: http://cds.linear.com/docs/en/datasheet/16323fs.pdf; ComponentLink3Description: Package Specification; ComponentLink3URL: http://cds.linear.com/docs/en/packaging/05081510_I_N8.pdf
footprint LT-N8-8 (DIP, 8-Leads, Body 10.16x6.48mm, Pitch 2.54mm)
pins on every part: 4 V- (power), 8 V+ (power)
part A pins: 1 OUT A (out), 2 -IN A (in), 3 +IN A (in)
part B pins: 5 +IN B (in), 6 -IN B (in), 7 OUT B (out)

## LT1632CN8#PBF
designator U?
Dual Channel, Low distortion, High Speed, Precision Operational Amplifier, RRIO, 45 MHz Typical GBW, 27 V/us Typical SR, 2.6 to 36 V, 8-Pin DIP (N8-8), Commercial, Pb-Free; Linear Technology Part Number: LT1632; Manufacturer: Linear Technology; PartNumber: LT1632CN8#PBF; Channels (#): 2; GBW (MHz) Typical: 45; Is (mA) Typical: 4.3; SR (V/us) Typical: 27; Vos (mV) Guaranteed: 1.35; Vos (mV) Typical: 0.4; Vs Max (V): 36; Vs Min (V): 2.6; PackageVersion: Rev I; PackageReference: LT-N8-8; PackageDescription: 8-Lead PDIP, Body 10.16 x 6.48 mm, Pitch 2.54 mm; Supplier 1: Digi-Key; Supplier Part Number 1: LT1632CN8#PBF-ND; Supplier 2: Farnell; Supplier Part Number 2: 1330677; Supplier 3: Newark; Supplier Part Number 3: 57M5298; RoHS: Pb-Free; Type: VFB; Mounting Technology: Surface Mount; ComponentLink1Description: Manufacturer URL; ComponentLink1URL: http://www.linear.com/; ComponentLink2Description: Datasheet; ComponentLink2URL: http://cds.linear.com/docs/en/datasheet/16323fs.pdf; ComponentLink3Description: Package Specification; ComponentLink3URL: http://cds.linear.com/docs/en/packaging/05081510_I_N8.pdf
footprint LT-N8-8 (DIP, 8-Leads, Body 10.16x6.48mm, Pitch 2.54mm)
pins on every part: 4 V- (power), 8 V+ (power)
part A pins: 1 OUT A (out), 2 -IN A (in), 3 +IN A (in)
part B pins: 5 +IN B (in), 6 -IN B (in), 7 OUT B (out)

## LT1632CS8
designator U?
Dual Channel, Low distortion, High Speed, Precision Operational Amplifier, RRIO, 45 MHz Typical GBW, 27 V/us Typical SR, 2.6 to 36 V, 8-Pin SOIC (S8-8), Commercial; Linear Technology Part Number: LT1632; Manufacturer: Linear Technology; PartNumber: LT1632CS8; Channels (#): 2; GBW (MHz) Typical: 45; Is (mA) Typical: 4.3; SR (V/us) Typical: 27; Vos (mV) Guaranteed: 1.35; Vos (mV) Typical: 0.4; Vs Max (V): 36; Vs Min (V): 2.6; PackageVersion: Rev G; PackageReference: LT-S8-8; PackageDescription: 8-Pin Plastic Small Outline, Body 4.9 x 3.9 mm, Pitch 1.27 mm; Supplier 1: Digi-Key; Supplier Part Number 1: LT1632CS8-ND; Type: VFB; Mounting Technology: Surface Mount; ComponentLink1Description: Manufacturer URL; ComponentLink1URL: http://www.linear.com/; ComponentLink2Description: Datasheet; ComponentLink2URL: http://cds.linear.com/docs/en/datasheet/16323fs.pdf; ComponentLink3Description: Package Specification; ComponentLink3URL: http://cds.linear.com/docs/en/packaging/05081610_G_SO8.pdf
footprint LT-S8-8_N (SOIC, 8-Leads, Body 4.9x3.9mm, Pitch 1.27mm, IPC Medium Density)
footprint LT-S8-8_L (SOIC, 8-Leads, Body 4.9x3.9mm, Pitch 1.27mm, IPC High Density)
footprint LT-S8-8_M (SOIC, 8-Leads, Body 4.9x3.9mm, Pitch 1.27mm, IPC Low Density)
pins on every part: 4 V- (power), 8 V+ (power)
part A pins: 1 OUT A (out), 2 -IN A (in), 3 +IN A (in)
part B pins: 5 +IN B (in), 6 -IN B (in), 7 OUT B (out)

## LT1632CS8#PBF
designator U?
Dual Channel, Low distortion, High Speed, Precision Operational Amplifier, RRIO, 45 MHz Typical GBW, 27 V/us Typical SR, 2.6 to 36 V, 8-Pin SOIC (S8-8), Commercial, Pb-Free; Linear Technology Part Number: LT1632; Manufacturer: Linear Technology; PartNumber: LT1632CS8#PBF; Channels (#): 2; GBW (MHz) Typical: 45; Is (mA) Typical: 4.3; SR (V/us) Typical: 27; Vos (mV) Guaranteed: 1.35; Vos (mV) Typical: 0.4; Vs Max (V): 36; Vs Min (V): 2.6; PackageVersion: Rev G; PackageReference: LT-S8-8; PackageDescription: 8-Pin Plastic Small Outline, Body 4.9 x 3.9 mm, Pitch 1.27 mm; Supplier 1: Digi-Key; Supplier Part Number 1: LT1632CS8#PBF-ND; Supplier 2: Farnell; Supplier Part Number 2: 1663454; Supplier 3: Newark; Supplier Part Number 3: 57M5300; RoHS: Pb-Free; Type: VFB; Mounting Technology: Surface Mount; ComponentLink1Description: Manufacturer URL; ComponentLink1URL: http://www.linear.com/; ComponentLink2Description: Datasheet; ComponentLink2URL: http://cds.linear.com/docs/en/datasheet/16323fs.pdf; ComponentLink3Description: Package Specification; ComponentLink3URL: http://cds.linear.com/docs/en/packaging/05081610_G_SO8.pdf
footprint LT-S8-8_N (SOIC, 8-Leads, Body 4.9x3.9mm, Pitch 1.27mm, IPC Medium Density)
footprint LT-S8-8_L (SOIC, 8-Leads, Body 4.9x3.9mm, Pitch 1.27mm, IPC High Density)
footprint LT-S8-8_M (SOIC, 8-Leads, Body 4.9x3.9mm, Pitch 1.27mm, IPC Low Density)
pins on every part: 4 V- (power), 8 V+ (power)
part A pins: 1 OUT A (out), 2 -IN A (in), 3 +IN A (in)
part B pins: 5 +IN B (in), 6 -IN B (in), 7 OUT B (out)

## LT1632CS8#TR
designator U?
Dual Channel, Low distortion, High Speed, Precision Operational Amplifier, RRIO, 45 MHz Typical GBW, 27 V/us Typical SR, 2.6 to 36 V, 8-Pin SOIC (S8-8), Commercial, Reel; Linear Technology Part Number: LT1632; Manufacturer: Linear Technology; PartNumber: LT1632CS8#TR; Channels (#): 2; GBW (MHz) Typical: 45; Is (mA) Typical: 4.3; SR (V/us) Typical: 27; Vos (mV) Guaranteed: 1.35; Vos (mV) Typical: 0.4; Vs Max (V): 36; Vs Min (V): 2.6; PackageVersion: Rev G; PackageReference: LT-S8-8; PackageDescription: 8-Pin Plastic Small Outline, Body 4.9 x 3.9 mm, Pitch 1.27 mm; Supplier 1: Digi-Key; Supplier Part Number 1: LT1632CS8#TR-ND; Packing: Reel; Type: VFB; Mounting Technology: Surface Mount; ComponentLink1Description: Manufacturer URL; ComponentLink1URL: http://www.linear.com/; ComponentLink2Description: Datasheet; ComponentLink2URL: http://cds.linear.com/docs/en/datasheet/16323fs.pdf; ComponentLink3Description: Package Specification; ComponentLink3URL: http://cds.linear.com/docs/en/packaging/05081610_G_SO8.pdf
footprint LT-S8-8_N (SOIC, 8-Leads, Body 4.9x3.9mm, Pitch 1.27mm, IPC Medium Density)
footprint LT-S8-8_L (SOIC, 8-Leads, Body 4.9x3.9mm, Pitch 1.27mm, IPC High Density)
footprint LT-S8-8_M (SOIC, 8-Leads, Body 4.9x3.9mm, Pitch 1.27mm, IPC Low Density)
pins on every part: 4 V- (power), 8 V+ (power)
part A pins: 1 OUT A (out), 2 -IN A (in), 3 +IN A (in)
part B pins: 5 +IN B (in), 6 -IN B (in), 7 OUT B (out)

## LT1632CS8#TRPBF
designator U?
Dual Channel, Low distortion, High Speed, Precision Operational Amplifier, RRIO, 45 MHz Typical GBW, 27 V/us Typical SR, 2.6 to 36 V, 8-Pin SOIC (S8-8), Commercial, Pb-Free, Reel; Linear Technology Part Number: LT1632; Manufacturer: Linear Technology; PartNumber: LT1632CS8#TRPBF; Channels (#): 2; GBW (MHz) Typical: 45; Is (mA) Typical: 4.3; SR (V/us) Typical: 27; Vos (mV) Guaranteed: 1.35; Vos (mV) Typical: 0.4; Vs Max (V): 36; Vs Min (V): 2.6; PackageVersion: Rev G; PackageReference: LT-S8-8; PackageDescription: 8-Pin Plastic Small Outline, Body 4.9 x 3.9 mm, Pitch 1.27 mm; Supplier 1: Digi-Key; Supplier Part Number 1: LT1632CS8#TRPBF-ND; Supplier 2: Newark; Supplier Part Number 2: 57M5302; Packing: Reel; RoHS: Pb-Free; Type: VFB; Mounting Technology: Surface Mount; ComponentLink1Description: Manufacturer URL; ComponentLink1URL: http://www.linear.com/; ComponentLink2Description: Datasheet; ComponentLink2URL: http://cds.linear.com/docs/en/datasheet/16323fs.pdf; ComponentLink3Description: Package Specification; ComponentLink3URL: http://cds.linear.com/docs/en/packaging/05081610_G_SO8.pdf
footprint LT-S8-8_N (SOIC, 8-Leads, Body 4.9x3.9mm, Pitch 1.27mm, IPC Medium Density)
footprint LT-S8-8_L (SOIC, 8-Leads, Body 4.9x3.9mm, Pitch 1.27mm, IPC High Density)
footprint LT-S8-8_M (SOIC, 8-Leads, Body 4.9x3.9mm, Pitch 1.27mm, IPC Low Density)
pins on every part: 4 V- (power), 8 V+ (power)
part A pins: 1 OUT A (out), 2 -IN A (in), 3 +IN A (in)
part B pins: 5 +IN B (in), 6 -IN B (in), 7 OUT B (out)

## LT1632IN8
designator U?
Dual Channel, Low distortion, High Speed, Precision Operational Amplifier, RRIO, 45 MHz Typical GBW, 27 V/us Typical SR, 2.6 to 36 V, 8-Pin DIP (N8-8), Industrial; Linear Technology Part Number: LT1632; Manufacturer: Linear Technology; PartNumber: LT1632IN8; Channels (#): 2; GBW (MHz) Typical: 45; Is (mA) Typical: 4.3; SR (V/us) Typical: 27; Vos (mV) Guaranteed: 1.35; Vos (mV) Typical: 0.4; Vs Max (V): 36; Vs Min (V): 2.6; PackageVersion: Rev I; PackageReference: LT-N8-8; PackageDescription: 8-Lead PDIP, Body 10.16 x 6.48 mm, Pitch 2.54 mm; Supplier 1: Digi-Key; Supplier Part Number 1: LT1632IN8-ND; Type: VFB; Mounting Technology: Through Hole; ComponentLink1Description: Manufacturer URL; ComponentLink1URL: http://www.linear.com/; ComponentLink2Description: Datasheet; ComponentLink2URL: http://cds.linear.com/docs/en/datasheet/16323fs.pdf; ComponentLink3Description: Package Specification; ComponentLink3URL: http://cds.linear.com/docs/en/packaging/05081510_I_N8.pdf
footprint LT-N8-8 (DIP, 8-Leads, Body 10.16x6.48mm, Pitch 2.54mm)
pins on every part: 4 V- (power), 8 V+ (power)
part A pins: 1 OUT A (out), 2 -IN A (in), 3 +IN A (in)
part B pins: 5 +IN B (in), 6 -IN B (in), 7 OUT B (out)

## LT1632IN8#PBF
designator U?
Dual Channel, Low distortion, High Speed, Precision Operational Amplifier, RRIO, 45 MHz Typical GBW, 27 V/us Typical SR, 2.6 to 36 V, 8-Pin DIP (N8-8), Industrial, Pb-Free; Linear Technology Part Number: LT1632; Manufacturer: Linear Technology; PartNumber: LT1632IN8#PBF; Channels (#): 2; GBW (MHz) Typical: 45; Is (mA) Typical: 4.3; SR (V/us) Typical: 27; Vos (mV) Guaranteed: 1.35; Vos (mV) Typical: 0.4; Vs Max (V): 36; Vs Min (V): 2.6; PackageVersion: Rev I; PackageReference: LT-N8-8; PackageDescription: 8-Lead PDIP, Body 10.16 x 6.48 mm, Pitch 2.54 mm; Supplier 1: Digi-Key; Supplier Part Number 1: LT1632IN8#PBF-ND; RoHS: Pb-Free; Type: VFB; Mounting Technology: Surface Mount; ComponentLink1Description: Manufacturer URL; ComponentLink1URL: http://www.linear.com/; ComponentLink2Description: Datasheet; ComponentLink2URL: http://cds.linear.com/docs/en/datasheet/16323fs.pdf; ComponentLink3Description: Package Specification; ComponentLink3URL: http://cds.linear.com/docs/en/packaging/05081510_I_N8.pdf
footprint LT-N8-8 (DIP, 8-Leads, Body 10.16x6.48mm, Pitch 2.54mm)
pins on every part: 4 V- (power), 8 V+ (power)
part A pins: 1 OUT A (out), 2 -IN A (in), 3 +IN A (in)
part B pins: 5 +IN B (in), 6 -IN B (in), 7 OUT B (out)

## LT1632IS8
designator U?
Dual Channel, Low distortion, High Speed, Precision Operational Amplifier, RRIO, 45 MHz Typical GBW, 27 V/us Typical SR, 2.6 to 36 V, 8-Pin SOIC (S8-8), Industrial; Linear Technology Part Number: LT1632; Manufacturer: Linear Technology; PartNumber: LT1632IS8; Channels (#): 2; GBW (MHz) Typical: 45; Is (mA) Typical: 4.3; SR (V/us) Typical: 27; Vos (mV) Guaranteed: 1.35; Vos (mV) Typical: 0.4; Vs Max (V): 36; Vs Min (V): 2.6; PackageVersion: Rev G; PackageReference: LT-S8-8; PackageDescription: 8-Pin Plastic Small Outline, Body 4.9 x 3.9 mm, Pitch 1.27 mm; Supplier 1: Digi-Key; Supplier Part Number 1: LT1632IS8-ND; Supplier 2: Newark; Supplier Part Number 2: 57M5305; Type: VFB; Mounting Technology: Surface Mount; ComponentLink1Description: Manufacturer URL; ComponentLink1URL: http://www.linear.com/; ComponentLink2Description: Datasheet; ComponentLink2URL: http://cds.linear.com/docs/en/datasheet/16323fs.pdf; ComponentLink3Description: Package Specification; ComponentLink3URL: http://cds.linear.com/docs/en/packaging/05081610_G_SO8.pdf
footprint LT-S8-8_N (SOIC, 8-Leads, Body 4.9x3.9mm, Pitch 1.27mm, IPC Medium Density)
footprint LT-S8-8_L (SOIC, 8-Leads, Body 4.9x3.9mm, Pitch 1.27mm, IPC High Density)
footprint LT-S8-8_M (SOIC, 8-Leads, Body 4.9x3.9mm, Pitch 1.27mm, IPC Low Density)
pins on every part: 4 V- (power), 8 V+ (power)
part A pins: 1 OUT A (out), 2 -IN A (in), 3 +IN A (in)
part B pins: 5 +IN B (in), 6 -IN B (in), 7 OUT B (out)

## LT1632IS8#PBF
designator U?
Dual Channel, Low distortion, High Speed, Precision Operational Amplifier, RRIO, 45 MHz Typical GBW, 27 V/us Typical SR, 2.6 to 36 V, 8-Pin SOIC (S8-8), Industrial, Pb-Free; Linear Technology Part Number: LT1632; Manufacturer: Linear Technology; PartNumber: LT1632IS8#PBF; Channels (#): 2; GBW (MHz) Typical: 45; Is (mA) Typical: 4.3; SR (V/us) Typical: 27; Vos (mV) Guaranteed: 1.35; Vos (mV) Typical: 0.4; Vs Max (V): 36; Vs Min (V): 2.6; PackageVersion: Rev G; PackageReference: LT-S8-8; PackageDescription: 8-Pin Plastic Small Outline, Body 4.9 x 3.9 mm, Pitch 1.27 mm; Supplier 1: Digi-Key; Supplier Part Number 1: LT1632IS8#PBF-ND; Supplier 2: Newark; Supplier Part Number 2: 57M5306; RoHS: Pb-Free; Type: VFB; Mounting Technology: Surface Mount; ComponentLink1Description: Manufacturer URL; ComponentLink1URL: http://www.linear.com/; ComponentLink2Description: Datasheet; ComponentLink2URL: http://cds.linear.com/docs/en/datasheet/16323fs.pdf; ComponentLink3Description: Package Specification; ComponentLink3URL: http://cds.linear.com/docs/en/packaging/05081610_G_SO8.pdf
footprint LT-S8-8_N (SOIC, 8-Leads, Body 4.9x3.9mm, Pitch 1.27mm, IPC Medium Density)
footprint LT-S8-8_L (SOIC, 8-Leads, Body 4.9x3.9mm, Pitch 1.27mm, IPC High Density)
footprint LT-S8-8_M (SOIC, 8-Leads, Body 4.9x3.9mm, Pitch 1.27mm, IPC Low Density)
pins on every part: 4 V- (power), 8 V+ (power)
part A pins: 1 OUT A (out), 2 -IN A (in), 3 +IN A (in)
part B pins: 5 +IN B (in), 6 -IN B (in), 7 OUT B (out)

## LT1632IS8#TR
designator U?
Dual Channel, Low distortion, High Speed, Precision Operational Amplifier, RRIO, 45 MHz Typical GBW, 27 V/us Typical SR, 2.6 to 36 V, 8-Pin SOIC (S8-8), Industrial, Reel; Linear Technology Part Number: LT1632; Manufacturer: Linear Technology; PartNumber: LT1632IS8#TR; Channels (#): 2; GBW (MHz) Typical: 45; Is (mA) Typical: 4.3; SR (V/us) Typical: 27; Vos (mV) Guaranteed: 1.35; Vos (mV) Typical: 0.4; Vs Max (V): 36; Vs Min (V): 2.6; PackageVersion: Rev G; PackageReference: LT-S8-8; PackageDescription: 8-Pin Plastic Small Outline, Body 4.9 x 3.9 mm, Pitch 1.27 mm; Supplier 1: Digi-Key; Supplier Part Number 1: LT1632IS8#TR-ND; Packing: Reel; Type: VFB; Mounting Technology: Surface Mount; ComponentLink1Description: Manufacturer URL; ComponentLink1URL: http://www.linear.com/; ComponentLink2Description: Datasheet; ComponentLink2URL: http://cds.linear.com/docs/en/datasheet/16323fs.pdf; ComponentLink3Description: Package Specification; ComponentLink3URL: http://cds.linear.com/docs/en/packaging/05081610_G_SO8.pdf
footprint LT-S8-8_N (SOIC, 8-Leads, Body 4.9x3.9mm, Pitch 1.27mm, IPC Medium Density)
footprint LT-S8-8_L (SOIC, 8-Leads, Body 4.9x3.9mm, Pitch 1.27mm, IPC High Density)
footprint LT-S8-8_M (SOIC, 8-Leads, Body 4.9x3.9mm, Pitch 1.27mm, IPC Low Density)
pins on every part: 4 V- (power), 8 V+ (power)
part A pins: 1 OUT A (out), 2 -IN A (in), 3 +IN A (in)
part B pins: 5 +IN B (in), 6 -IN B (in), 7 OUT B (out)

## LT1632IS8#TRPBF
designator U?
Dual Channel, Low distortion, High Speed, Precision Operational Amplifier, RRIO, 45 MHz Typical GBW, 27 V/us Typical SR, 2.6 to 36 V, 8-Pin SOIC (S8-8), Industrial, Pb-Free, Reel; Linear Technology Part Number: LT1632; Manufacturer: Linear Technology; PartNumber: LT1632IS8#TRPBF; Channels (#): 2; GBW (MHz) Typical: 45; Is (mA) Typical: 4.3; SR (V/us) Typical: 27; Vos (mV) Guaranteed: 1.35; Vos (mV) Typical: 0.4; Vs Max (V): 36; Vs Min (V): 2.6; PackageVersion: Rev G; PackageReference: LT-S8-8; PackageDescription: 8-Pin Plastic Small Outline, Body 4.9 x 3.9 mm, Pitch 1.27 mm; Supplier 1: Digi-Key; Supplier Part Number 1: LT1632IS8#TRPBF-ND; Supplier 2: Newark; Supplier Part Number 2: 57M5308; Packing: Reel; RoHS: Pb-Free; Type: VFB; Mounting Technology: Surface Mount; ComponentLink1Description: Manufacturer URL; ComponentLink1URL: http://www.linear.com/; ComponentLink2Description: Datasheet; ComponentLink2URL: http://cds.linear.com/docs/en/datasheet/16323fs.pdf; ComponentLink3Description: Package Specification; ComponentLink3URL: http://cds.linear.com/docs/en/packaging/05081610_G_SO8.pdf
footprint LT-S8-8_N (SOIC, 8-Leads, Body 4.9x3.9mm, Pitch 1.27mm, IPC Medium Density)
footprint LT-S8-8_L (SOIC, 8-Leads, Body 4.9x3.9mm, Pitch 1.27mm, IPC High Density)
footprint LT-S8-8_M (SOIC, 8-Leads, Body 4.9x3.9mm, Pitch 1.27mm, IPC Low Density)
pins on every part: 4 V- (power), 8 V+ (power)
part A pins: 1 OUT A (out), 2 -IN A (in), 3 +IN A (in)
part B pins: 5 +IN B (in), 6 -IN B (in), 7 OUT B (out)

## LT1633CS
designator U?
Quad Channel, Low Distortion, High Speed, Precision Operational Amplifier, RRIO, 45 MHz Typical GBW, 27 V/us Typical SR, 2.6 to 36 V, 14-Pin SOIC (S-14), Commercial; Linear Technology Part Number: LT1633; Manufacturer: Linear Technology; PartNumber: LT1633CS; Channels (#): 4; GBW (MHz) Typical: 45; Is (mA) Typical: 4.3; SR (V/us) Typical: 27; Vos (mV) Guaranteed: 1.35; Vos (mV) Typical: 0.4; Vs Max (V): 36; Vs Min (V): 2.6; PackageVersion: Rev G; PackageReference: LT-S-14; PackageDescription: 14-Lead Plastic Small Outline, Body 8.65 x 3.90 mm, Pitch 1.27 mm; Supplier 1: Digi-Key; Supplier Part Number 1: LT1633CS-ND; Type: VFB; Mounting Technology: Surface Mount; ComponentLink1Description: Manufacturer URL; ComponentLink1URL: http://www.linear.com/; ComponentLink2Description: Datasheet; ComponentLink2URL: http://cds.linear.com/docs/en/datasheet/16323fs.pdf; ComponentLink3Description: Package Specification; ComponentLink3URL: http://cds.linear.com/docs/en/packaging/05081610_G_S14.pdf
footprint LT-S-14_N (SOIC, 14-Leads, Body 8.65x3.90mm, Pitch 1.27mm, IPC Medium Density)
footprint LT-S-14_L (SOIC, 14-Leads, Body 8.65x3.90mm, Pitch 1.27mm, IPC High Density)
footprint LT-S-14_M (SOIC, 14-Leads, Body 8.65x3.90mm, Pitch 1.27mm, IPC Low Density)
pins on every part: 4 V+ (power), 11 V- (power)
part A pins: 1 OUT A (out), 2 -IN A (in), 3 +IN A (in)
part B pins: 5 +IN B (in), 6 -IN B (in), 7 OUT B (out)
part C pins: 8 OUT C (out), 9 -IN C (in), 10 +IN C (in)
part D pins: 12 +IN D (in), 13 -IN D (in), 14 OUT D (out)

## LT1633CS#PBF
designator U?
Quad Channel, Low Distortion, High Speed, Precision Operational Amplifier, RRIO, 45 MHz Typical GBW, 27 V/us Typical SR, 2.6 to 36 V, 14-Pin SOIC (S-14), Commercial, Pb-Free; Linear Technology Part Number: LT1633; Manufacturer: Linear Technology; PartNumber: LT1633CS#PBF; Channels (#): 4; GBW (MHz) Typical: 45; Is (mA) Typical: 4.3; SR (V/us) Typical: 27; Vos (mV) Guaranteed: 1.35; Vos (mV) Typical: 0.4; Vs Max (V): 36; Vs Min (V): 2.6; PackageVersion: Rev G; PackageReference: LT-S-14; PackageDescription: 14-Lead Plastic Small Outline, Body 8.65 x 3.90 mm, Pitch 1.27 mm; Supplier 1: Digi-Key; Supplier Part Number 1: LT1633CS#PBF-ND; Supplier 2: Farnell; Supplier Part Number 2: 2252730; Supplier 3: Newark; Supplier Part Number 3: 57M5310; RoHS: Pb-Free; Type: VFB; Mounting Technology: Surface Mount; ComponentLink1Description: Manufacturer URL; ComponentLink1URL: http://www.linear.com/; ComponentLink2Description: Datasheet; ComponentLink2URL: http://cds.linear.com/docs/en/datasheet/16323fs.pdf; ComponentLink3Description: Package Specification; ComponentLink3URL: http://cds.linear.com/docs/en/packaging/05081610_G_S14.pdf
footprint LT-S-14_N (SOIC, 14-Leads, Body 8.65x3.90mm, Pitch 1.27mm, IPC Medium Density)
footprint LT-S-14_L (SOIC, 14-Leads, Body 8.65x3.90mm, Pitch 1.27mm, IPC High Density)
footprint LT-S-14_M (SOIC, 14-Leads, Body 8.65x3.90mm, Pitch 1.27mm, IPC Low Density)
pins on every part: 4 V+ (power), 11 V- (power)
part A pins: 1 OUT A (out), 2 -IN A (in), 3 +IN A (in)
part B pins: 5 +IN B (in), 6 -IN B (in), 7 OUT B (out)
part C pins: 8 OUT C (out), 9 -IN C (in), 10 +IN C (in)
part D pins: 12 +IN D (in), 13 -IN D (in), 14 OUT D (out)